# Altium footprint library MSS-22D18.PcbLib: 1 footprints
Each footprint in its own frame and in the unit in brackets; x right, y up, seen from the top. Pads: shape width x height; smd on the part's side, far side on the other; paste and mask are expansions set on the pad; w line width, h text height; cw(c..) or ccw(c..) is an arc to the next point about the centre after c.
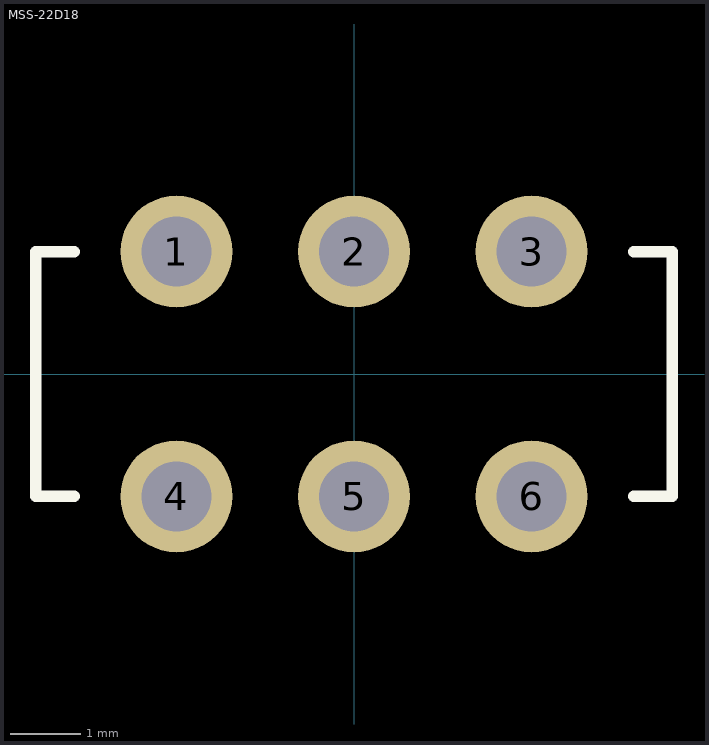
[diagram p0: the footprint, top view; thin cyan lines are the x and y axes]

## MSS-22D18 [mm]
height 3.5
pads (6):
  round 1.6 hole 1: 1(-2.54,1.75) 2(0,1.75) 3(2.54,1.75) 4(-2.54,-1.75) 5(0,-1.75) 6(2.54,-1.75)
Top Overlay:
  lines w0.165: -4,-1.75 -4.55,-1.75 -4.55,1.75 -4,1.75 ; 4,-1.75 4.55,-1.75 4.55,1.75 4,1.75